# EAGLE library part BMP180 (library bear_altimeters_lib)
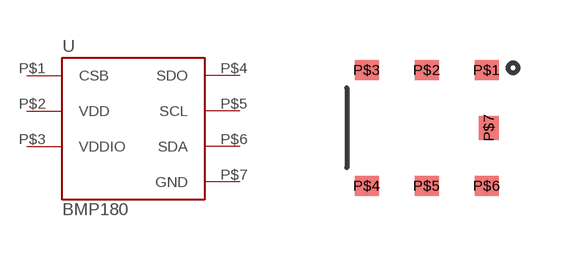
[diagram p5: symbol with the pads of LGA-7; footprint LGA-7]

Designator prefix -

## BMP180  [LGA-7]
P$1  CSB
P$2  VDD
P$3  VDDIO
P$4  SDO
P$5  SCL
P$6  SDA
P$7  GND

## Footprint LGA-7 (pad centres in mm)
smd 0.6 x 0.5: P$1 1.5,1.45; P$2 0,1.45; P$3 -1.5,1.45; P$4 -1.5,-1.45; P$5 0,-1.45; P$6 1.5,-1.45
smd 0.5 x 0.6: P$7 1.55,0